# EAGLE library part 61800925123 (library Input-Output_Connectors_rev15d)
WR-DSUB Female PCB Connector, 9 Pins=>Code : Con_I-O_DSUB_PCB_Female_wo-screw_61800925123 <http://katalog.we-online.de/media/images/eican/Con_I-O_DSUB_PCB_Female_wo-screw_6180xx25123_pf2.jpg> Details see: http://katalog.we-online.de/en/em/618_0xx_251_23 Created 2014-07-10, Karrer Zheng 2014 (C) Würth Elektronik
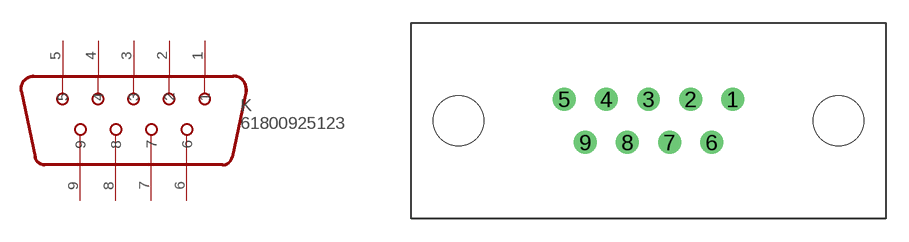
[diagram p4: symbol with the pads of 61800925123; footprint 61800925123]

Designator prefix K

## 61800925123  [61800925123]
1  1
2  2
3  3
4  4
5  5
6  6
7  7
8  8
9  9

## Footprint 61800925123 (pad centres in mm)
WR-DSUB Female PCB Connector, 9 Pins
drill 1: 1 5.54,1.42; 2 2.77,1.42; 3 0,1.42; 4 -2.77,1.42; 5 -5.54,1.42; 6 4.155,-1.42; 7 1.385,-1.42; 8 -1.385,-1.42; 9 -4.155,-1.42
hole 3.3 at -12.495,0
hole 3.3 at 12.495,0